# Altium integrated library ST Memory Non-Volatile RAM.IntLib: 54 symbols (part 2 of 2)
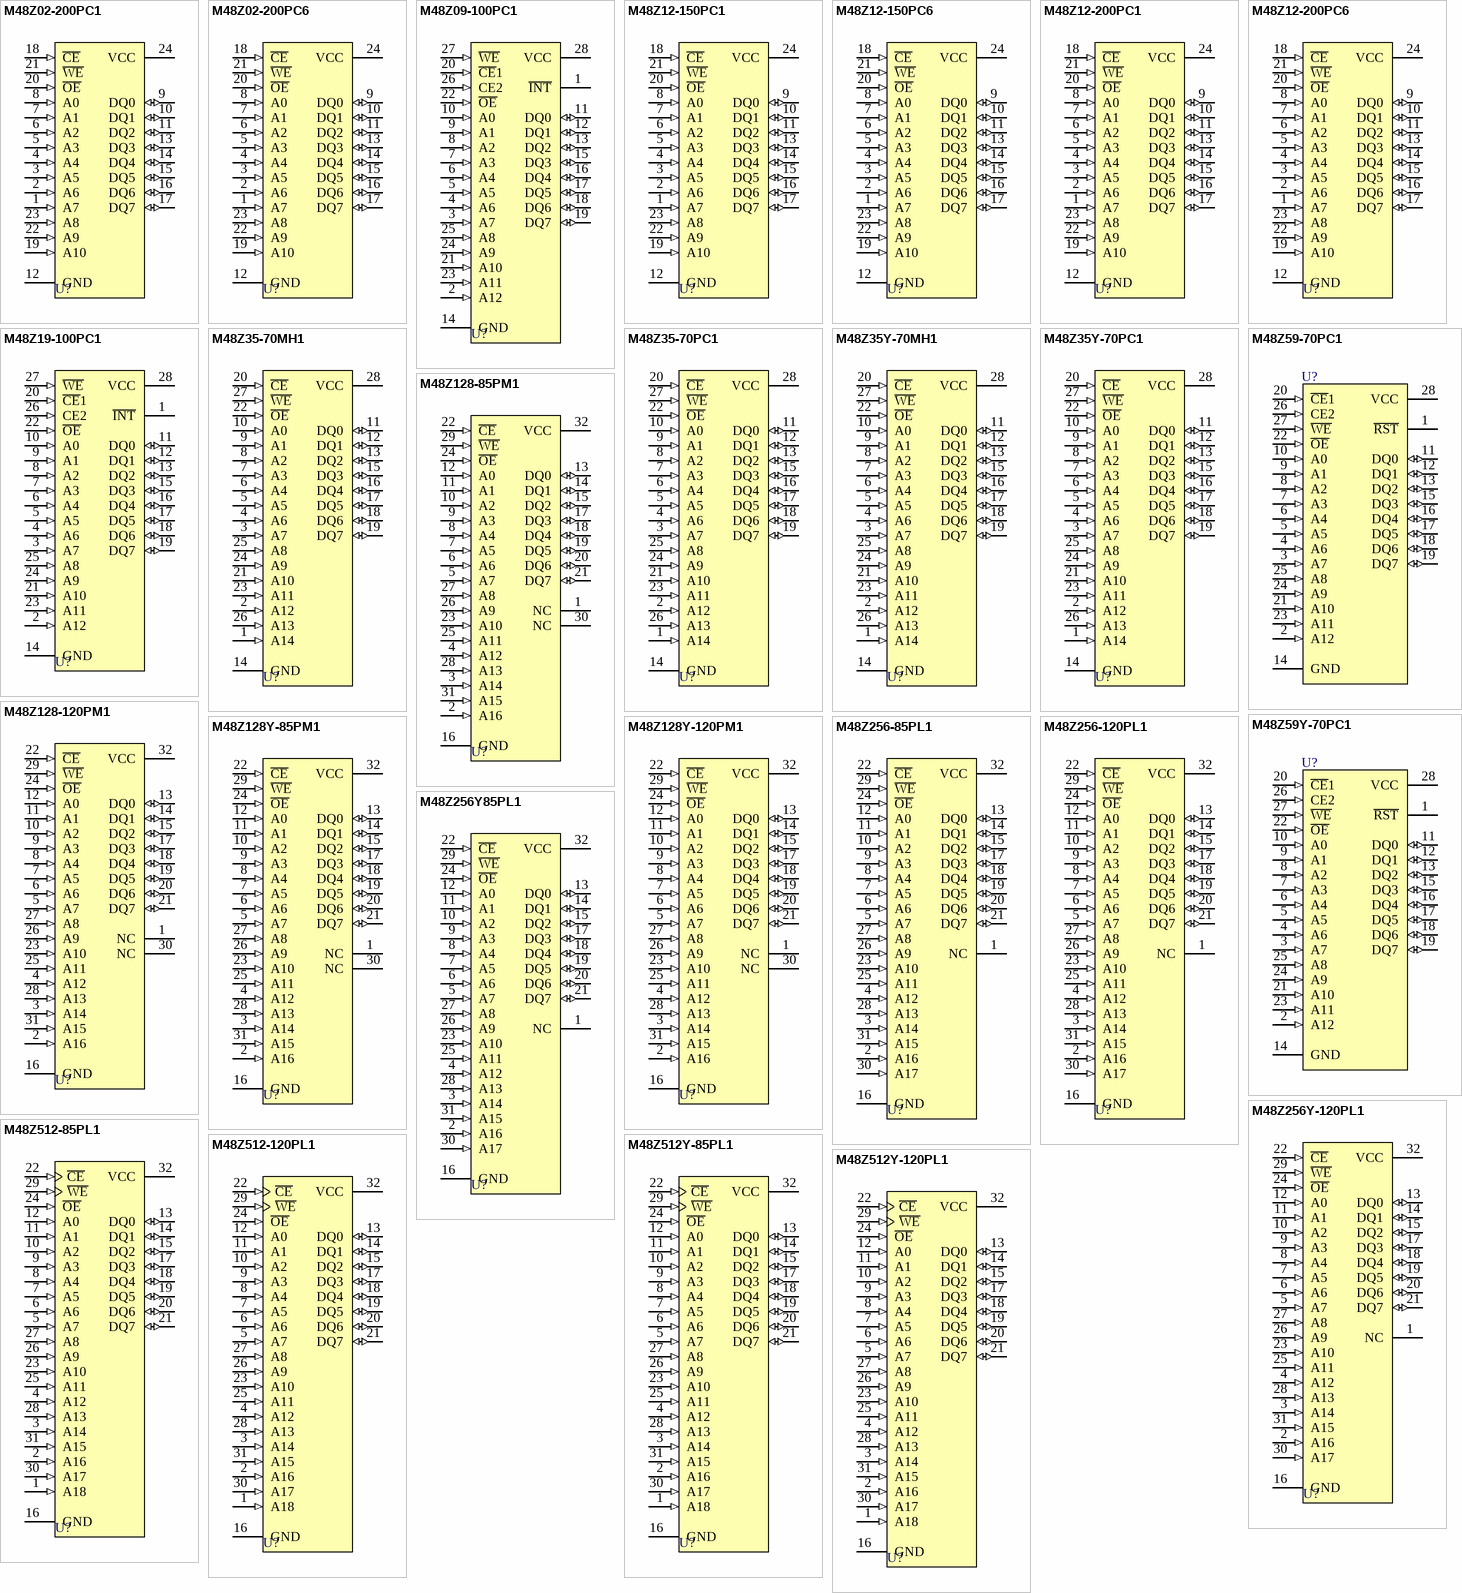
[diagram p3: symbols M48Z02-200PC1 to M48Z512Y-120PL1]

## M48Z512-85PL1
designator U?
CMOS 512K x 8 Zeropower SRAM; Published: 24-Aug-2001; LatestRevisionDate: 17-Jul-2002; LatestRevisionNote: PCB footprint, 'DIP-P32/X1.2' replaced; Re-released for DXP Platform.; DatasheetVersion: Jan-1992; PackageReference: PMDIP32; Publisher: Altium Limited; PackageDescription: DIP; 32 Rectangular Pins; Row Space 15.24 mm; Pitch 2.54 mm; ComponentLink1Description: Manufacturer Link; ComponentLink1URL: http://www.st.com/
footprint PMDIP32 (DIP; 32 Rectangular Pins; Row Space 15.24 mm; Pitch 2.54 mm)
pins: 1 A18 (in), 2 A16 (in), 3 A14 (in), 4 A12 (in), 5 A7 (in), 6 A6 (in), 7 A5 (in), 8 A4 (in), 9 A3 (in), 10 A2 (in), 11 A1 (in), 12 A0 (in), 13 DQ0 (io), 14 DQ1 (io), 15 DQ2 (io), 16 GND (power), 17 DQ3 (io), 18 DQ4 (io), 19 DQ5 (io), 20 DQ6 (io), 21 DQ7 (io), 22 ~{CE} (in), 23 A10 (in), 24 ~{OE} (in), 25 A11 (in), 26 A9 (in), 27 A8 (in), 28 A13 (in), 29 ~{WE} (in), 30 A17 (in), 31 A15 (in), 32 VCC (power)

## M48Z512-120PL1
designator U?
CMOS 512K x 8 Zeropower SRAM; Published: 24-Aug-2001; LatestRevisionDate: 17-Jul-2002; LatestRevisionNote: PCB footprint, 'DIP-P32/X1.2' replaced; Re-released for DXP Platform.; DatasheetVersion: Jan-1992; PackageReference: PMDIP32; Publisher: Altium Limited; PackageDescription: DIP; 32 Rectangular Pins; Row Space 15.24 mm; Pitch 2.54 mm; ComponentLink1Description: Manufacturer Link; ComponentLink1URL: http://www.st.com/
footprint PMDIP32 (DIP; 32 Rectangular Pins; Row Space 15.24 mm; Pitch 2.54 mm)
pins: 1 A18 (in), 2 A16 (in), 3 A14 (in), 4 A12 (in), 5 A7 (in), 6 A6 (in), 7 A5 (in), 8 A4 (in), 9 A3 (in), 10 A2 (in), 11 A1 (in), 12 A0 (in), 13 DQ0 (io), 14 DQ1 (io), 15 DQ2 (io), 16 GND (power), 17 DQ3 (io), 18 DQ4 (io), 19 DQ5 (io), 20 DQ6 (io), 21 DQ7 (io), 22 ~{CE} (in), 23 A10 (in), 24 ~{OE} (in), 25 A11 (in), 26 A9 (in), 27 A8 (in), 28 A13 (in), 29 ~{WE} (in), 30 A17 (in), 31 A15 (in), 32 VCC (power)

## M48Z512Y-85PL1
designator U?
CMOS 512K x 8 Zeropower SRAM; Published: 24-Aug-2001; LatestRevisionDate: 17-Jul-2002; LatestRevisionNote: PCB footprint, 'DIP-P32/X1.2' replaced; Re-released for DXP Platform.; DatasheetVersion: Jan-1992; PackageReference: PMDIP32; Publisher: Altium Limited; PackageDescription: DIP; 32 Rectangular Pins; Row Space 15.24 mm; Pitch 2.54 mm; ComponentLink1Description: Manufacturer Link; ComponentLink1URL: http://www.st.com/
footprint PMDIP32 (DIP; 32 Rectangular Pins; Row Space 15.24 mm; Pitch 2.54 mm)
pins: 1 A18 (in), 2 A16 (in), 3 A14 (in), 4 A12 (in), 5 A7 (in), 6 A6 (in), 7 A5 (in), 8 A4 (in), 9 A3 (in), 10 A2 (in), 11 A1 (in), 12 A0 (in), 13 DQ0 (io), 14 DQ1 (io), 15 DQ2 (io), 16 GND (power), 17 DQ3 (io), 18 DQ4 (io), 19 DQ5 (io), 20 DQ6 (io), 21 DQ7 (io), 22 ~{CE} (in), 23 A10 (in), 24 ~{OE} (in), 25 A11 (in), 26 A9 (in), 27 A8 (in), 28 A13 (in), 29 ~{WE} (in), 30 A17 (in), 31 A15 (in), 32 VCC (power)

## M48Z512Y-120PL1
designator U?
CMOS 512K x 8 Zeropower SRAM; Published: 24-Aug-2001; LatestRevisionDate: 17-Jul-2002; LatestRevisionNote: PCB footprint, 'DIP-P32/X1.2' replaced; Re-released for DXP Platform.; DatasheetVersion: Jan-1992; PackageReference: PMDIP32; Publisher: Altium Limited; PackageDescription: DIP; 32 Rectangular Pins; Row Space 15.24 mm; Pitch 2.54 mm; ComponentLink1Description: Manufacturer Link; ComponentLink1URL: http://www.st.com/
footprint PMDIP32 (DIP; 32 Rectangular Pins; Row Space 15.24 mm; Pitch 2.54 mm)
pins: 1 A18 (in), 2 A16 (in), 3 A14 (in), 4 A12 (in), 5 A7 (in), 6 A6 (in), 7 A5 (in), 8 A4 (in), 9 A3 (in), 10 A2 (in), 11 A1 (in), 12 A0 (in), 13 DQ0 (io), 14 DQ1 (io), 15 DQ2 (io), 16 GND (power), 17 DQ3 (io), 18 DQ4 (io), 19 DQ5 (io), 20 DQ6 (io), 21 DQ7 (io), 22 ~{CE} (in), 23 A10 (in), 24 ~{OE} (in), 25 A11 (in), 26 A9 (in), 27 A8 (in), 28 A13 (in), 29 ~{WE} (in), 30 A17 (in), 31 A15 (in), 32 VCC (power)

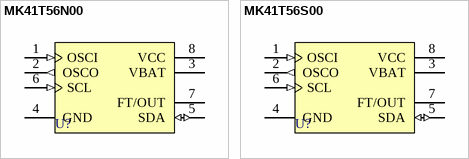
[diagram p2: symbols MK41T56N00 to MK41T56S00]

## MK41T56N00
designator U?
512 Bit (64b x 8) Serial Access Timekeeper SRAM; Published: 24-Aug-2001; LatestRevisionDate: 06-Jun-2005; LatestRevisionNote: Stylized 3D Model Added.; DatasheetVersion: Mar-1999; PackageVersion: Jun-1998; PackageReference: PSDIP8B; Publisher: Altium Limited; PackageDescription: DIP; 8 Leads; Row Spacing 7.62 mm; Pitch 2.54 mm; ComponentLink1Description: Manufacturer Link; ComponentLink1URL: http://www.st.com/
footprint PSDIP8B (DIP; 8 Leads; Row Spacing 7.62 mm; Pitch 2.54 mm)
3D model PSDIP8B (DIP; 8 Leads; Row Spacing 7.62 mm; Pitch 2.54 mm)
pins: 1 OSCI (in), 2 OSCO (out), 3 VBAT (power), 4 GND (power), 5 SDA (io), 6 SCL (in), 7 FT/OUT (oc), 8 VCC (power)

## MK41T56S00
designator U?
512 Bit (64b x 8) Serial Access Timekeeper SRAM; Published: 24-Aug-2001; LatestRevisionDate: 13-Apr-2006; LatestRevisionNote: IPC-7351 Footprint Added.; DatasheetVersion: Mar-1999; PackageVersion: Jul-1999; PackageReference: SOP8; Publisher: Altium Limited; PackageDescription: 8-Pin Small Outline Integrated Circuit 1.27 mm Pitch; ComponentLink1Description: Manufacturer Link; ComponentLink1URL: http://www.st.com/
footprint SOP8_N (SOIC, 8-Leads, Body 4.9x3.9mm, Pitch 1.27mm, IPC Medium Density)
footprint SOP8_L (SOIC, 8-Leads, Body 4.9x3.9mm, Pitch 1.27mm, IPC High Density)
footprint SOP8_M (SOIC, 8-Leads, Body 4.9x3.9mm, Pitch 1.27mm, IPC Low Density)
3D model SOP8 (8-Pin Small Outline Integrated Circuit 1.27 mm Pitch)
pins: 1 OSCI (in), 2 OSCO (out), 3 VBAT (power), 4 GND (power), 5 SDA (io), 6 SCL (in), 7 FT/OUT (oc), 8 VCC (power)